# Altium schematic symbol library US5881LSE-AAA-000-RE.SchLib: 1 symbol
Pins are listed as number, name and electrical type; pins without a type are passive.

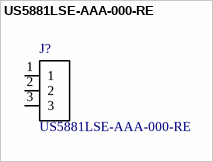
[diagram p0: symbol US5881LSE-AAA-000-RE]

## US5881LSE-AAA-000-RE
designator J?
Digital Switch Unipolar Switch Open Drain Hall Effect SOT-23
footprint US5881LSE-AAA-000-RE
pins: 1, 2, 3